# Altium schematic symbol library R1966ABLKBLKEF.SchLib: 1 symbol
Pins are listed as number, name and electrical type; pins without a type are passive.

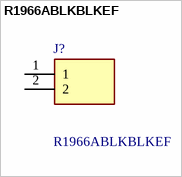
[diagram p0: symbol R1966ABLKBLKEF]

## R1966ABLKBLKEF
designator J?
ROCKER, 15A, 125VAC SPST, On-Off Panel Mount, Snap-In; Manufacturer_Name: E-Switch; Geometry.Height: 19.4mm; Manufacturer_Part_Number: R1966ABLKBLKEF; Mouser Part Number: 612-R1966ABKBKEF; Mouser Price/Stock: https://www.mouser.co.uk/ProductDetail/E-Switch/R1966ABLKBLKEF?qs=4EnmSMTL3HMWRKl8eQAJdA%3D%3D; Arrow Part Number: *; Arrow Price/Stock: *; Datasheet Link: https://configured-product-images.s3.amazonaws.com/2D/specs/R1966ABLKBLKEF.pdf
footprint R1966ABLKBLKEF
pins: 1, 2